# Altium integrated library C0805C100K4HACAUTO.IntLib: 1 symbol
Pins are listed as number, name and electrical type; pins without a type are passive.

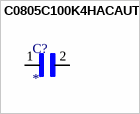
[diagram p0: symbol C0805C100K4HACAUTO]

## C0805C100K4HACAUTO
designator C?
MP: C0805C100K4HACAUTO; Package: None; Price: None; Value: *; Availability: Unavailable
footprint CAPC2012X88N
pins: 1, 2